# Altium schematic symbol library D_BAT54S.Schlib: 1 symbol
Pins are listed as number, name and electrical type; pins without a type are passive.

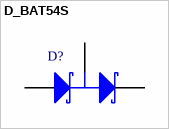
[diagram p0: symbol D_BAT54S]

## D_BAT54S
designator D?
pins: 1 A, 2 K, 3 C